# EAGLE library part MOLEX_20P_F (library ConV4)
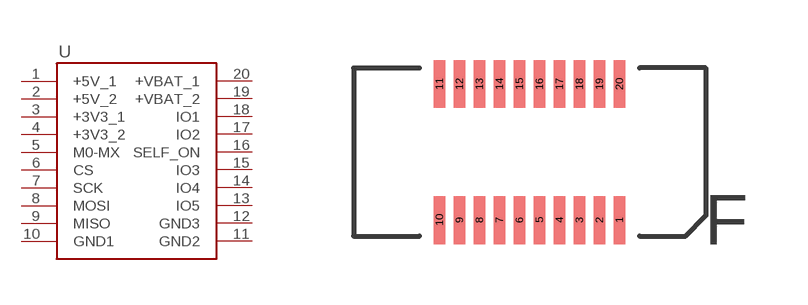
[diagram p6: symbol with the pads of MOLEX_20P_F; footprint MOLEX_20P_F]

Designator prefix -

## MOLEX_20P_F  [MOLEX_20P_F]
1  +5V_1
2  +5V_2
3  +3V3_1
4  +3V3_2
5  M0-MX
6  CS
7  SCK
8  MOSI
9  MISO
10  GND1
11  GND2
12  GND3
13  IO5
14  IO4
15  IO3
16  SELF_ON
17  IO2
18  IO1
19  +VBAT_2
20  +VBAT_1

## Footprint MOLEX_20P_F (pad centres in mm)
smd 0.28 x 1.2: 1 0,-1.7; 2 -0.5,-1.7; 3 -1,-1.7; 4 -1.5,-1.7; 5 -2,-1.7; 6 -2.5,-1.7; 7 -3,-1.7; 8 -3.5,-1.7; 9 -4,-1.7; 10 -4.5,-1.7; 11 -4.5,1.7; 12 -4,1.7; 13 -3.5,1.7; 14 -3,1.7; 15 -2.5,1.7; 16 -2,1.7; 17 -1.5,1.7; 18 -1,1.7; 19 -0.5,1.7; 20 0,1.7